# Altium footprint library Connector_Molex.PcbLib: 815 footprints (part 26 of 51)
Each footprint in its own frame and in the unit in brackets; x right, y up, seen from the top. Pads: shape width x height; smd on the part's side, far side on the other; paste and mask are expansions set on the pad; w line width, h text height; cw(c..) or ccw(c..) is an arc to the next point about the centre after c.
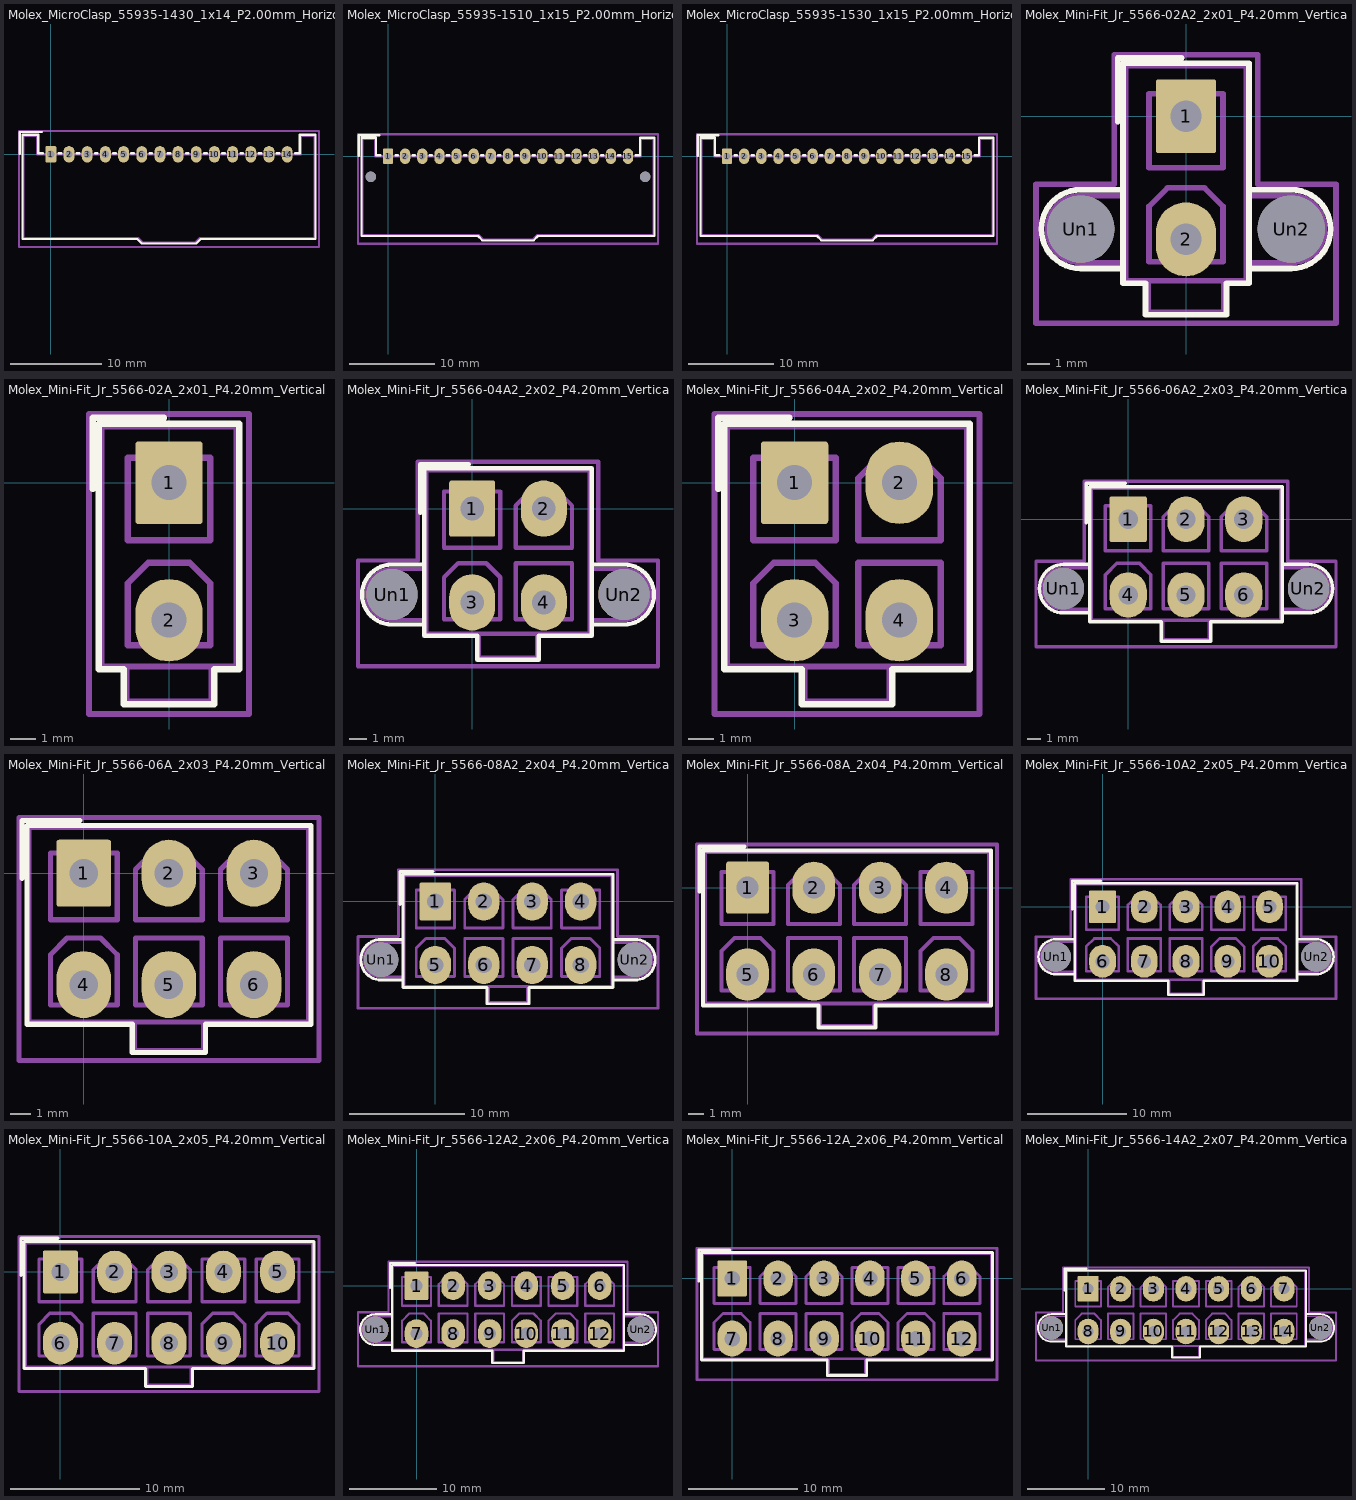
[diagram p25: the footprints below, top view; thin cyan lines are the x and y axes]

## Molex_MicroClasp_55935-1430_1x14_P2.00mm_Horizontal [mm]
pads (14):
  rrect21% 1.2x1.8 hole 0.8: 1(0,0)
  rrect100% 1.2x1.8 hole 0.8: 2(2,0) 3(4,0) 4(6,0) 5(8,0) 6(10,0) 7(12,0) 8(14,0) 9(16,0) 10(18,0) 11(20,0) 12(22,0) 13(24,0) 14(26,0)
F.SilkS:
  lines w0.254: -3.41,0.05 -3.41,2.46 -1,2.46 ; -0.86,0.11 -1.39,0.11 -1.39,2.16 -3.11,2.16 -3.11,-9.31 9.5,-9.31 10,-9.81 13,-9.81 16,-9.81 16.5,-9.31 29.11,-9.31 29.11,2.16 27.39,2.16 27.39,0.11 26.86,0.11 ; 0.86,0.11 1.14,0.11 ; 2.86,0.11 3.14,0.11 ; 4.86,0.11 5.14,0.11 ; 6.86,0.11 7.14,0.11 ; 8.86,0.11 9.14,0.11 ; 10.86,0.11 11.14,0.11 ; 12.86,0.11 13.14,0.11 ; 14.86,0.11 15.14,0.11 ; 16.86,0.11 17.14,0.11 ; 18.86,0.11 19.14,0.11 ; 20.86,0.11 21.14,0.11 ; 22.86,0.11 23.14,0.11 ; 24.86,0.11 25.14,0.11
Top Assembly:
  lines w0.254: -0.5,0 0,-0.707 0.5,0 ; -3,-9.2 9.61,-9.2 10.11,-9.7 13,-9.7 15.89,-9.7 16.39,-9.2 29,-9.2 29,2.05 27.5,2.05 27.5,0 13,0 -1.5,0 -1.5,2.05 -3,2.05 -3,-9.2
  text "'.Designator'" at 8.953,-9.34 h1
Top Courtyard:
  lines w0.254: -3.5,-10.2 29.5,-10.2 29.5,2.56 -3.5,2.56 -3.5,-10.2
Top Designator:
  text ".Designator" at 5.382,-4.328 h1.52

## Molex_MicroClasp_55935-1510_1x15_P2.00mm_Horizontal [mm]
pads (17):
  rrect21% 1.2x1.8 hole 0.8: 1(0,0)
  rrect100% 1.2x1.8 hole 0.8: 2(2,0) 3(4,0) 4(6,0) 5(8,0) 6(10,0) 7(12,0) 8(14,0) 9(16,0) 10(18,0) 11(20,0) 12(22,0) 13(24,0) 14(26,0) 15(28,0)
  round 1.2 hole 1.2: Un1(-2,-2.4) Un2(30,-2.4)
F.SilkS:
  lines w0.254: -3.41,0.05 -3.41,2.46 -1,2.46 ; -0.86,0.11 -1.39,0.11 -1.39,2.16 -3.11,2.16 -3.11,-9.31 10.5,-9.31 11,-9.81 14,-9.81 17,-9.81 17.5,-9.31 31.11,-9.31 31.11,2.16 29.39,2.16 29.39,0.11 28.86,0.11 ; 0.86,0.11 1.14,0.11 ; 2.86,0.11 3.14,0.11 ; 4.86,0.11 5.14,0.11 ; 6.86,0.11 7.14,0.11 ; 8.86,0.11 9.14,0.11 ; 10.86,0.11 11.14,0.11 ; 12.86,0.11 13.14,0.11 ; 14.86,0.11 15.14,0.11 ; 16.86,0.11 17.14,0.11 ; 18.86,0.11 19.14,0.11 ; 20.86,0.11 21.14,0.11 ; 22.86,0.11 23.14,0.11 ; 24.86,0.11 25.14,0.11 ; 26.86,0.11 27.14,0.11
Top Assembly:
  lines w0.254: -0.5,0 0,-0.707 0.5,0 ; -3,-9.2 10.61,-9.2 11.11,-9.7 14,-9.7 16.89,-9.7 17.39,-9.2 31,-9.2 31,2.05 29.5,2.05 29.5,0 14,0 -1.5,0 -1.5,2.05 -3,2.05 -3,-9.2
  text "'.Designator'" at 9.953,-9.34 h1
Top Courtyard:
  lines w0.254: -3.5,-10.2 31.5,-10.2 31.5,2.56 -3.5,2.56 -3.5,-10.2
Top Designator:
  text ".Designator" at 6.382,-4.328 h1.52

## Molex_MicroClasp_55935-1530_1x15_P2.00mm_Horizontal [mm]
pads (15):
  rrect21% 1.2x1.8 hole 0.8: 1(0,0)
  rrect100% 1.2x1.8 hole 0.8: 2(2,0) 3(4,0) 4(6,0) 5(8,0) 6(10,0) 7(12,0) 8(14,0) 9(16,0) 10(18,0) 11(20,0) 12(22,0) 13(24,0) 14(26,0) 15(28,0)
F.SilkS:
  lines w0.254: -3.41,0.05 -3.41,2.46 -1,2.46 ; -0.86,0.11 -1.39,0.11 -1.39,2.16 -3.11,2.16 -3.11,-9.31 10.5,-9.31 11,-9.81 14,-9.81 17,-9.81 17.5,-9.31 31.11,-9.31 31.11,2.16 29.39,2.16 29.39,0.11 28.86,0.11 ; 0.86,0.11 1.14,0.11 ; 2.86,0.11 3.14,0.11 ; 4.86,0.11 5.14,0.11 ; 6.86,0.11 7.14,0.11 ; 8.86,0.11 9.14,0.11 ; 10.86,0.11 11.14,0.11 ; 12.86,0.11 13.14,0.11 ; 14.86,0.11 15.14,0.11 ; 16.86,0.11 17.14,0.11 ; 18.86,0.11 19.14,0.11 ; 20.86,0.11 21.14,0.11 ; 22.86,0.11 23.14,0.11 ; 24.86,0.11 25.14,0.11 ; 26.86,0.11 27.14,0.11
Top Assembly:
  lines w0.254: -0.5,0 0,-0.707 0.5,0 ; -3,-9.2 10.61,-9.2 11.11,-9.7 14,-9.7 16.89,-9.7 17.39,-9.2 31,-9.2 31,2.05 29.5,2.05 29.5,0 14,0 -1.5,0 -1.5,2.05 -3,2.05 -3,-9.2
  text "'.Designator'" at 9.953,-9.34 h1
Top Courtyard:
  lines w0.254: -3.5,-10.2 31.5,-10.2 31.5,2.56 -3.5,2.56 -3.5,-10.2
Top Designator:
  text ".Designator" at 6.382,-4.328 h1.52

## Molex_Mini-Fit_Jr_5566-02A2_2x01_P4.20mm_Vertical [mm]
pads (4):
  rrect9% 2.7x3.3 hole 1.4: 1(0,0)
  rrect100% 2.7x3.3 hole 1.4: 2(0,-5.5)
  round 3 hole 3: Un1(-4.7,-5.04) Un2(4.7,-5.04)
F.SilkS:
  lines w0.254: -3.05,-0.25 -3.05,2.6 -0.2,2.6 ; -2.81,-6.8 -4.7,-6.8 cw(c-4.7,-5.04) -4.7,-3.28 -2.81,-3.28 ; 2.81,-6.8 4.7,-6.8 ccw(c4.7,-5.04) 4.7,-3.28 2.81,-3.28 ; -2.81,-7.46 -1.81,-7.46 -1.81,-8.86 0,-8.86 1.81,-8.86 1.81,-7.46 2.81,-7.46 2.81,2.36 0,2.36 -2.81,2.36 -2.81,-7.46
Top Assembly:
  lines w0.254: -3.05,-0.25 -3.05,2.6 -0.2,2.6 ; -2.7,-6.54 -4.7,-6.54 cw(c-4.7,-5.04) -4.7,-3.54 -2.7,-3.54 ; -1.7,-7.35 -1.7,-8.75 1.7,-8.75 1.7,-7.35 ; 2.7,-6.54 4.7,-6.54 ccw(c4.7,-5.04) 4.7,-3.54 2.7,-3.54 ; -2.7,-7.35 2.7,-7.35 2.7,2.25 -2.7,2.25 -2.7,-7.35 ; -1.65,-6.5 1.65,-6.5 1.65,-4.025 0.825,-3.2 -0.825,-3.2 -1.65,-4.025 -1.65,-6.5 ; -1.65,-2.3 1.65,-2.3 1.65,1 -1.65,1 -1.65,-2.3
  text "'.Designator'" at -4.047,0.71 h1
Top Courtyard:
  lines w0.254: -6.7,-9.25 6.7,-9.25 6.7,-3.04 3.2,-3.04 3.2,2.75 -3.2,2.75 -3.2,-3.04 -6.7,-3.04 -6.7,-9.25
Top Designator:
  text ".Designator" at -7.618,-3.758 h1.52

## Molex_Mini-Fit_Jr_5566-02A_2x01_P4.20mm_Vertical [mm]
pads (2):
  rrect9% 2.7x3.3 hole 1.4: 1(0,0)
  rrect100% 2.7x3.3 hole 1.4: 2(0,-5.5)
F.SilkS:
  lines w0.254: -3.05,-0.25 -3.05,2.6 -0.2,2.6 ; -2.81,-7.46 -1.81,-7.46 -1.81,-8.86 0,-8.86 1.81,-8.86 1.81,-7.46 2.81,-7.46 2.81,2.36 0,2.36 -2.81,2.36 -2.81,-7.46
Top Assembly:
  lines w0.254: -3.05,-0.25 -3.05,2.6 -0.2,2.6 ; -1.7,-7.35 -1.7,-8.75 1.7,-8.75 1.7,-7.35 ; -2.7,-7.35 2.7,-7.35 2.7,2.25 -2.7,2.25 -2.7,-7.35 ; -1.65,-6.5 1.65,-6.5 1.65,-4.025 0.825,-3.2 -0.825,-3.2 -1.65,-4.025 -1.65,-6.5 ; -1.65,-2.3 1.65,-2.3 1.65,1 -1.65,1 -1.65,-2.3
  text "'.Designator'" at -4.047,0.71 h1
Top Courtyard:
  lines w0.254: -3.2,-9.25 3.2,-9.25 3.2,2.75 -3.2,2.75 -3.2,-9.25
Top Designator:
  text ".Designator" at -7.768,-3.758 h1.52

## Molex_Mini-Fit_Jr_5566-04A2_2x02_P4.20mm_Vertical [mm]
pads (6):
  rrect9% 2.7x3.3 hole 1.4: 1(0,0)
  rrect100% 2.7x3.3 hole 1.4: 2(4.2,0) 3(0,-5.5) 4(4.2,-5.5)
  round 3 hole 3: Un1(-4.7,-5.04) Un2(8.9,-5.04)
F.SilkS:
  lines w0.254: -3.05,-0.25 -3.05,2.6 -0.2,2.6 ; -2.81,-6.8 -4.7,-6.8 cw(c-4.7,-5.04) -4.7,-3.28 -2.81,-3.28 ; 7.01,-6.8 8.9,-6.8 ccw(c8.9,-5.04) 8.9,-3.28 7.01,-3.28 ; -2.81,-7.46 0.29,-7.46 0.29,-8.86 2.1,-8.86 3.91,-8.86 3.91,-7.46 7.01,-7.46 7.01,2.36 2.1,2.36 -2.81,2.36 -2.81,-7.46
Top Assembly:
  lines w0.254: -3.05,-0.25 -3.05,2.6 -0.2,2.6 ; -2.7,-6.54 -4.7,-6.54 cw(c-4.7,-5.04) -4.7,-3.54 -2.7,-3.54 ; 0.4,-7.35 0.4,-8.75 3.8,-8.75 3.8,-7.35 ; 6.9,-6.54 8.9,-6.54 ccw(c8.9,-5.04) 8.9,-3.54 6.9,-3.54 ; -2.7,-7.35 6.9,-7.35 6.9,2.25 -2.7,2.25 -2.7,-7.35 ; -1.65,-6.5 1.65,-6.5 1.65,-4.025 0.825,-3.2 -0.825,-3.2 -1.65,-4.025 -1.65,-6.5 ; -1.65,-2.3 1.65,-2.3 1.65,1 -1.65,1 -1.65,-2.3 ; 2.55,-6.5 5.85,-6.5 5.85,-3.2 2.55,-3.2 2.55,-6.5 ; 2.55,-2.3 5.85,-2.3 5.85,0.175 5.025,1 3.375,1 2.55,0.175 2.55,-2.3
  text "'.Designator'" at -1.947,0.71 h1
Top Courtyard:
  lines w0.254: -6.7,-9.25 10.9,-9.25 10.9,-3.04 7.4,-3.04 7.4,2.75 -3.2,2.75 -3.2,-3.04 -6.7,-3.04 -6.7,-9.25
Top Designator:
  text ".Designator" at -5.518,-3.758 h1.52

## Molex_Mini-Fit_Jr_5566-04A_2x02_P4.20mm_Vertical [mm]
pads (4):
  rrect9% 2.7x3.3 hole 1.4: 1(0,0)
  rrect100% 2.7x3.3 hole 1.4: 2(4.2,0) 3(0,-5.5) 4(4.2,-5.5)
F.SilkS:
  lines w0.254: -3.05,-0.25 -3.05,2.6 -0.2,2.6 ; -2.81,-7.46 0.29,-7.46 0.29,-8.86 2.1,-8.86 3.91,-8.86 3.91,-7.46 7.01,-7.46 7.01,2.36 2.1,2.36 -2.81,2.36 -2.81,-7.46
Top Assembly:
  lines w0.254: -3.05,-0.25 -3.05,2.6 -0.2,2.6 ; 0.4,-7.35 0.4,-8.75 3.8,-8.75 3.8,-7.35 ; -2.7,-7.35 6.9,-7.35 6.9,2.25 -2.7,2.25 -2.7,-7.35 ; -1.65,-6.5 1.65,-6.5 1.65,-4.025 0.825,-3.2 -0.825,-3.2 -1.65,-4.025 -1.65,-6.5 ; -1.65,-2.3 1.65,-2.3 1.65,1 -1.65,1 -1.65,-2.3 ; 2.55,-6.5 5.85,-6.5 5.85,-3.2 2.55,-3.2 2.55,-6.5 ; 2.55,-2.3 5.85,-2.3 5.85,0.175 5.025,1 3.375,1 2.55,0.175 2.55,-2.3
  text "'.Designator'" at -1.947,0.71 h1
Top Courtyard:
  lines w0.254: -3.2,-9.25 7.4,-9.25 7.4,2.75 -3.2,2.75 -3.2,-9.25
Top Designator:
  text ".Designator" at -5.518,-3.758 h1.52

## Molex_Mini-Fit_Jr_5566-06A2_2x03_P4.20mm_Vertical [mm]
pads (8):
  rrect9% 2.7x3.3 hole 1.4: 1(0,0)
  rrect100% 2.7x3.3 hole 1.4: 2(4.2,0) 3(8.4,0) 4(0,-5.5) 5(4.2,-5.5) 6(8.4,-5.5)
  round 3 hole 3: Un1(-4.7,-5.04) Un2(13.1,-5.04)
F.SilkS:
  lines w0.254: -3.05,-0.25 -3.05,2.6 -0.2,2.6 ; -2.81,-6.8 -4.7,-6.8 cw(c-4.7,-5.04) -4.7,-3.28 -2.81,-3.28 ; 11.21,-6.8 13.1,-6.8 ccw(c13.1,-5.04) 13.1,-3.28 11.21,-3.28 ; -2.81,-7.46 2.39,-7.46 2.39,-8.86 4.2,-8.86 6.01,-8.86 6.01,-7.46 11.21,-7.46 11.21,2.36 4.2,2.36 -2.81,2.36 -2.81,-7.46
Top Assembly:
  lines w0.254: -3.05,-0.25 -3.05,2.6 -0.2,2.6 ; -2.7,-6.54 -4.7,-6.54 cw(c-4.7,-5.04) -4.7,-3.54 -2.7,-3.54 ; 2.5,-7.35 2.5,-8.75 5.9,-8.75 5.9,-7.35 ; 11.1,-6.54 13.1,-6.54 ccw(c13.1,-5.04) 13.1,-3.54 11.1,-3.54 ; -2.7,-7.35 11.1,-7.35 11.1,2.25 -2.7,2.25 -2.7,-7.35 ; -1.65,-6.5 1.65,-6.5 1.65,-4.025 0.825,-3.2 -0.825,-3.2 -1.65,-4.025 -1.65,-6.5 ; -1.65,-2.3 1.65,-2.3 1.65,1 -1.65,1 -1.65,-2.3 ; 2.55,-6.5 5.85,-6.5 5.85,-3.2 2.55,-3.2 2.55,-6.5 ; 2.55,-2.3 5.85,-2.3 5.85,0.175 5.025,1 3.375,1 2.55,0.175 2.55,-2.3 ; 6.75,-6.5 10.05,-6.5 10.05,-3.2 6.75,-3.2 6.75,-6.5 ; 6.75,-2.3 10.05,-2.3 10.05,0.175 9.225,1 7.575,1 6.75,0.175 6.75,-2.3
  text "'.Designator'" at 0.153,0.71 h1
Top Courtyard:
  lines w0.254: -6.7,-9.25 15.1,-9.25 15.1,-3.04 11.61,-3.04 11.61,2.75 -3.2,2.75 -3.2,-3.04 -6.7,-3.04 -6.7,-9.25
Top Designator:
  text ".Designator" at -3.418,-3.758 h1.52

## Molex_Mini-Fit_Jr_5566-06A_2x03_P4.20mm_Vertical [mm]
pads (6):
  rrect9% 2.7x3.3 hole 1.4: 1(0,0)
  rrect100% 2.7x3.3 hole 1.4: 2(4.2,0) 3(8.4,0) 4(0,-5.5) 5(4.2,-5.5) 6(8.4,-5.5)
F.SilkS:
  lines w0.254: -3.05,-0.25 -3.05,2.6 -0.2,2.6 ; -2.81,-7.46 2.39,-7.46 2.39,-8.86 4.2,-8.86 6.01,-8.86 6.01,-7.46 11.21,-7.46 11.21,2.36 4.2,2.36 -2.81,2.36 -2.81,-7.46
Top Assembly:
  lines w0.254: -3.05,-0.25 -3.05,2.6 -0.2,2.6 ; 2.5,-7.35 2.5,-8.75 5.9,-8.75 5.9,-7.35 ; -2.7,-7.35 11.1,-7.35 11.1,2.25 -2.7,2.25 -2.7,-7.35 ; -1.65,-6.5 1.65,-6.5 1.65,-4.025 0.825,-3.2 -0.825,-3.2 -1.65,-4.025 -1.65,-6.5 ; -1.65,-2.3 1.65,-2.3 1.65,1 -1.65,1 -1.65,-2.3 ; 2.55,-6.5 5.85,-6.5 5.85,-3.2 2.55,-3.2 2.55,-6.5 ; 2.55,-2.3 5.85,-2.3 5.85,0.175 5.025,1 3.375,1 2.55,0.175 2.55,-2.3 ; 6.75,-6.5 10.05,-6.5 10.05,-3.2 6.75,-3.2 6.75,-6.5 ; 6.75,-2.3 10.05,-2.3 10.05,0.175 9.225,1 7.575,1 6.75,0.175 6.75,-2.3
  text "'.Designator'" at 0.153,0.71 h1
Top Courtyard:
  lines w0.254: -3.2,-9.25 11.61,-9.25 11.61,2.75 -3.2,2.75 -3.2,-9.25
Top Designator:
  text ".Designator" at -3.413,-3.758 h1.52

## Molex_Mini-Fit_Jr_5566-08A2_2x04_P4.20mm_Vertical [mm]
pads (10):
  rrect9% 2.7x3.3 hole 1.4: 1(0,0)
  rrect100% 2.7x3.3 hole 1.4: 2(4.2,0) 3(8.4,0) 4(12.6,0) 5(0,-5.5) 6(4.2,-5.5) 7(8.4,-5.5) 8(12.6,-5.5)
  round 3 hole 3: Un1(-4.7,-5.04) Un2(17.3,-5.04)
F.SilkS:
  lines w0.254: -3.05,-0.25 -3.05,2.6 -0.2,2.6 ; -2.81,-6.8 -4.7,-6.8 cw(c-4.7,-5.04) -4.7,-3.28 -2.81,-3.28 ; 15.41,-6.8 17.3,-6.8 ccw(c17.3,-5.04) 17.3,-3.28 15.41,-3.28 ; -2.81,-7.46 4.49,-7.46 4.49,-8.86 6.3,-8.86 8.11,-8.86 8.11,-7.46 15.41,-7.46 15.41,2.36 6.3,2.36 -2.81,2.36 -2.81,-7.46
Top Assembly:
  lines w0.254: -3.05,-0.25 -3.05,2.6 -0.2,2.6 ; -2.7,-6.54 -4.7,-6.54 cw(c-4.7,-5.04) -4.7,-3.54 -2.7,-3.54 ; 4.6,-7.35 4.6,-8.75 8,-8.75 8,-7.35 ; 15.3,-6.54 17.3,-6.54 ccw(c17.3,-5.04) 17.3,-3.54 15.3,-3.54 ; -2.7,-7.35 15.3,-7.35 15.3,2.25 -2.7,2.25 -2.7,-7.35 ; -1.65,-6.5 1.65,-6.5 1.65,-4.025 0.825,-3.2 -0.825,-3.2 -1.65,-4.025 -1.65,-6.5 ; -1.65,-2.3 1.65,-2.3 1.65,1 -1.65,1 -1.65,-2.3 ; 2.55,-6.5 5.85,-6.5 5.85,-3.2 2.55,-3.2 2.55,-6.5 ; 2.55,-2.3 5.85,-2.3 5.85,0.175 5.025,1 3.375,1 2.55,0.175 2.55,-2.3 ; 6.75,-6.5 10.05,-6.5 10.05,-3.2 6.75,-3.2 6.75,-6.5 ; 6.75,-2.3 10.05,-2.3 10.05,0.175 9.225,1 7.575,1 6.75,0.175 6.75,-2.3 ; 10.95,-6.5 14.25,-6.5 14.25,-4.025 13.425,-3.2 11.775,-3.2 10.95,-4.025 10.95,-6.5 ; 10.95,-2.3 14.25,-2.3 14.25,1 10.95,1 10.95,-2.3
  text "'.Designator'" at 2.253,0.71 h1
Top Courtyard:
  lines w0.254: -6.7,-9.25 19.3,-9.25 19.3,-3.04 15.8,-3.04 15.8,2.75 -3.2,2.75 -3.2,-3.04 -6.7,-3.04 -6.7,-9.25
Top Designator:
  text ".Designator" at -1.318,-3.758 h1.52

## Molex_Mini-Fit_Jr_5566-08A_2x04_P4.20mm_Vertical [mm]
pads (8):
  rrect9% 2.7x3.3 hole 1.4: 1(0,0)
  rrect100% 2.7x3.3 hole 1.4: 2(4.2,0) 3(8.4,0) 4(12.6,0) 5(0,-5.5) 6(4.2,-5.5) 7(8.4,-5.5) 8(12.6,-5.5)
F.SilkS:
  lines w0.254: -3.05,-0.25 -3.05,2.6 -0.2,2.6 ; -2.81,-7.46 4.49,-7.46 4.49,-8.86 6.3,-8.86 8.11,-8.86 8.11,-7.46 15.41,-7.46 15.41,2.36 6.3,2.36 -2.81,2.36 -2.81,-7.46
Top Assembly:
  lines w0.254: -3.05,-0.25 -3.05,2.6 -0.2,2.6 ; 4.6,-7.35 4.6,-8.75 8,-8.75 8,-7.35 ; -2.7,-7.35 15.3,-7.35 15.3,2.25 -2.7,2.25 -2.7,-7.35 ; -1.65,-6.5 1.65,-6.5 1.65,-4.025 0.825,-3.2 -0.825,-3.2 -1.65,-4.025 -1.65,-6.5 ; -1.65,-2.3 1.65,-2.3 1.65,1 -1.65,1 -1.65,-2.3 ; 2.55,-6.5 5.85,-6.5 5.85,-3.2 2.55,-3.2 2.55,-6.5 ; 2.55,-2.3 5.85,-2.3 5.85,0.175 5.025,1 3.375,1 2.55,0.175 2.55,-2.3 ; 6.75,-6.5 10.05,-6.5 10.05,-3.2 6.75,-3.2 6.75,-6.5 ; 6.75,-2.3 10.05,-2.3 10.05,0.175 9.225,1 7.575,1 6.75,0.175 6.75,-2.3 ; 10.95,-6.5 14.25,-6.5 14.25,-4.025 13.425,-3.2 11.775,-3.2 10.95,-4.025 10.95,-6.5 ; 10.95,-2.3 14.25,-2.3 14.25,1 10.95,1 10.95,-2.3
  text "'.Designator'" at 2.253,0.71 h1
Top Courtyard:
  lines w0.254: -3.2,-9.25 15.8,-9.25 15.8,2.75 -3.2,2.75 -3.2,-9.25
Top Designator:
  text ".Designator" at -1.318,-3.758 h1.52

## Molex_Mini-Fit_Jr_5566-10A2_2x05_P4.20mm_Vertical [mm]
pads (12):
  rrect9% 2.7x3.3 hole 1.4: 1(0,0)
  rrect100% 2.7x3.3 hole 1.4: 2(4.2,0) 3(8.4,0) 4(12.6,0) 5(16.8,0) 6(0,-5.5) 7(4.2,-5.5) 8(8.4,-5.5) 9(12.6,-5.5) 10(16.8,-5.5)
  round 3 hole 3: Un1(-4.7,-5.04) Un2(21.5,-5.04)
F.SilkS:
  lines w0.254: -3.05,-0.25 -3.05,2.6 -0.2,2.6 ; -2.81,-6.8 -4.7,-6.8 cw(c-4.7,-5.04) -4.7,-3.28 -2.81,-3.28 ; 19.61,-6.8 21.5,-6.8 ccw(c21.5,-5.04) 21.5,-3.28 19.61,-3.28 ; -2.81,-7.46 6.59,-7.46 6.59,-8.86 8.4,-8.86 10.21,-8.86 10.21,-7.46 19.61,-7.46 19.61,2.36 8.4,2.36 -2.81,2.36 -2.81,-7.46
Top Assembly:
  lines w0.254: -3.05,-0.25 -3.05,2.6 -0.2,2.6 ; -2.7,-6.54 -4.7,-6.54 cw(c-4.7,-5.04) -4.7,-3.54 -2.7,-3.54 ; 6.7,-7.35 6.7,-8.75 10.1,-8.75 10.1,-7.35 ; 19.5,-6.54 21.5,-6.54 ccw(c21.5,-5.04) 21.5,-3.54 19.5,-3.54 ; -2.7,-7.35 19.5,-7.35 19.5,2.25 -2.7,2.25 -2.7,-7.35 ; -1.65,-6.5 1.65,-6.5 1.65,-4.025 0.825,-3.2 -0.825,-3.2 -1.65,-4.025 -1.65,-6.5 ; -1.65,-2.3 1.65,-2.3 1.65,1 -1.65,1 -1.65,-2.3 ; 2.55,-6.5 5.85,-6.5 5.85,-3.2 2.55,-3.2 2.55,-6.5 ; 2.55,-2.3 5.85,-2.3 5.85,0.175 5.025,1 3.375,1 2.55,0.175 2.55,-2.3 ; 6.75,-6.5 10.05,-6.5 10.05,-3.2 6.75,-3.2 6.75,-6.5 ; 6.75,-2.3 10.05,-2.3 10.05,0.175 9.225,1 7.575,1 6.75,0.175 6.75,-2.3 ; 10.95,-6.5 14.25,-6.5 14.25,-4.025 13.425,-3.2 11.775,-3.2 10.95,-4.025 10.95,-6.5 ; 10.95,-2.3 14.25,-2.3 14.25,1 10.95,1 10.95,-2.3 ; 15.15,-6.5 18.45,-6.5 18.45,-4.025 17.625,-3.2 15.975,-3.2 15.15,-4.025 15.15,-6.5 ; 15.15,-2.3 18.45,-2.3 18.45,1 15.15,1 15.15,-2.3
  text "'.Designator'" at 4.353,0.71 h1
Top Courtyard:
  lines w0.254: -6.7,-9.25 23.5,-9.25 23.5,-3.04 20,-3.04 20,2.75 -3.2,2.75 -3.2,-3.04 -6.7,-3.04 -6.7,-9.25
Top Designator:
  text ".Designator" at 0.782,-3.758 h1.52

## Molex_Mini-Fit_Jr_5566-10A_2x05_P4.20mm_Vertical [mm]
pads (10):
  rrect9% 2.7x3.3 hole 1.4: 1(0,0)
  rrect100% 2.7x3.3 hole 1.4: 2(4.2,0) 3(8.4,0) 4(12.6,0) 5(16.8,0) 6(0,-5.5) 7(4.2,-5.5) 8(8.4,-5.5) 9(12.6,-5.5) 10(16.8,-5.5)
F.SilkS:
  lines w0.254: -3.05,-0.25 -3.05,2.6 -0.2,2.6 ; -2.81,-7.46 6.59,-7.46 6.59,-8.86 8.4,-8.86 10.21,-8.86 10.21,-7.46 19.61,-7.46 19.61,2.36 8.4,2.36 -2.81,2.36 -2.81,-7.46
Top Assembly:
  lines w0.254: -3.05,-0.25 -3.05,2.6 -0.2,2.6 ; 6.7,-7.35 6.7,-8.75 10.1,-8.75 10.1,-7.35 ; -2.7,-7.35 19.5,-7.35 19.5,2.25 -2.7,2.25 -2.7,-7.35 ; -1.65,-6.5 1.65,-6.5 1.65,-4.025 0.825,-3.2 -0.825,-3.2 -1.65,-4.025 -1.65,-6.5 ; -1.65,-2.3 1.65,-2.3 1.65,1 -1.65,1 -1.65,-2.3 ; 2.55,-6.5 5.85,-6.5 5.85,-3.2 2.55,-3.2 2.55,-6.5 ; 2.55,-2.3 5.85,-2.3 5.85,0.175 5.025,1 3.375,1 2.55,0.175 2.55,-2.3 ; 6.75,-6.5 10.05,-6.5 10.05,-3.2 6.75,-3.2 6.75,-6.5 ; 6.75,-2.3 10.05,-2.3 10.05,0.175 9.225,1 7.575,1 6.75,0.175 6.75,-2.3 ; 10.95,-6.5 14.25,-6.5 14.25,-4.025 13.425,-3.2 11.775,-3.2 10.95,-4.025 10.95,-6.5 ; 10.95,-2.3 14.25,-2.3 14.25,1 10.95,1 10.95,-2.3 ; 15.15,-6.5 18.45,-6.5 18.45,-4.025 17.625,-3.2 15.975,-3.2 15.15,-4.025 15.15,-6.5 ; 15.15,-2.3 18.45,-2.3 18.45,1 15.15,1 15.15,-2.3
  text "'.Designator'" at 4.353,0.71 h1
Top Courtyard:
  lines w0.254: -3.2,-9.25 20,-9.25 20,2.75 -3.2,2.75 -3.2,-9.25
Top Designator:
  text ".Designator" at 0.782,-3.758 h1.52

## Molex_Mini-Fit_Jr_5566-12A2_2x06_P4.20mm_Vertical [mm]
pads (14):
  rrect9% 2.7x3.3 hole 1.4: 1(0,0)
  rrect100% 2.7x3.3 hole 1.4: 2(4.2,0) 3(8.4,0) 4(12.6,0) 5(16.8,0) 6(21,0) 7(0,-5.5) 8(4.2,-5.5) 9(8.4,-5.5) 10(12.6,-5.5) 11(16.8,-5.5) 12(21,-5.5)
  round 3 hole 3: Un1(-4.7,-5.04) Un2(25.7,-5.04)
F.SilkS:
  lines w0.254: -3.05,-0.25 -3.05,2.6 -0.2,2.6 ; -2.81,-6.8 -4.7,-6.8 cw(c-4.7,-5.04) -4.7,-3.28 -2.81,-3.28 ; 23.81,-6.8 25.7,-6.8 ccw(c25.7,-5.04) 25.7,-3.28 23.81,-3.28 ; -2.81,-7.46 8.69,-7.46 8.69,-8.86 10.5,-8.86 12.31,-8.86 12.31,-7.46 23.81,-7.46 23.81,2.36 10.5,2.36 -2.81,2.36 -2.81,-7.46
Top Assembly:
  lines w0.254: -3.05,-0.25 -3.05,2.6 -0.2,2.6 ; -2.7,-6.54 -4.7,-6.54 cw(c-4.7,-5.04) -4.7,-3.54 -2.7,-3.54 ; 8.8,-7.35 8.8,-8.75 12.2,-8.75 12.2,-7.35 ; 23.7,-6.54 25.7,-6.54 ccw(c25.7,-5.04) 25.7,-3.54 23.7,-3.54 ; -2.7,-7.35 23.7,-7.35 23.7,2.25 -2.7,2.25 -2.7,-7.35 ; -1.65,-6.5 1.65,-6.5 1.65,-4.025 0.825,-3.2 -0.825,-3.2 -1.65,-4.025 -1.65,-6.5 ; -1.65,-2.3 1.65,-2.3 1.65,1 -1.65,1 -1.65,-2.3 ; 2.55,-6.5 5.85,-6.5 5.85,-3.2 2.55,-3.2 2.55,-6.5 ; 2.55,-2.3 5.85,-2.3 5.85,0.175 5.025,1 3.375,1 2.55,0.175 2.55,-2.3 ; 6.75,-6.5 10.05,-6.5 10.05,-3.2 6.75,-3.2 6.75,-6.5 ; 6.75,-2.3 10.05,-2.3 10.05,0.175 9.225,1 7.575,1 6.75,0.175 6.75,-2.3 ; 10.95,-6.5 14.25,-6.5 14.25,-4.025 13.425,-3.2 11.775,-3.2 10.95,-4.025 10.95,-6.5 ; 10.95,-2.3 14.25,-2.3 14.25,1 10.95,1 10.95,-2.3 ; 15.15,-6.5 18.45,-6.5 18.45,-4.025 17.625,-3.2 15.975,-3.2 15.15,-4.025 15.15,-6.5 ; 15.15,-2.3 18.45,-2.3 18.45,1 15.15,1 15.15,-2.3 ; 19.35,-6.5 22.65,-6.5 22.65,-3.2 19.35,-3.2 19.35,-6.5 ; 19.35,-2.3 22.65,-2.3 22.65,0.175 21.825,1 20.175,1 19.35,0.175 19.35,-2.3
  text "'.Designator'" at 6.453,0.71 h1
Top Courtyard:
  lines w0.254: -6.71,-9.25 27.7,-9.25 27.7,-3.04 24.21,-3.04 24.21,2.75 -3.21,2.75 -3.21,-3.04 -6.71,-3.04 -6.71,-9.25
Top Designator:
  text ".Designator" at 2.877,-3.758 h1.52

## Molex_Mini-Fit_Jr_5566-12A_2x06_P4.20mm_Vertical [mm]
pads (12):
  rrect9% 2.7x3.3 hole 1.4: 1(0,0)
  rrect100% 2.7x3.3 hole 1.4: 2(4.2,0) 3(8.4,0) 4(12.6,0) 5(16.8,0) 6(21,0) 7(0,-5.5) 8(4.2,-5.5) 9(8.4,-5.5) 10(12.6,-5.5) 11(16.8,-5.5) 12(21,-5.5)
F.SilkS:
  lines w0.254: -3.05,-0.25 -3.05,2.6 -0.2,2.6 ; -2.81,-7.46 8.69,-7.46 8.69,-8.86 10.5,-8.86 12.31,-8.86 12.31,-7.46 23.81,-7.46 23.81,2.36 10.5,2.36 -2.81,2.36 -2.81,-7.46
Top Assembly:
  lines w0.254: -3.05,-0.25 -3.05,2.6 -0.2,2.6 ; 8.8,-7.35 8.8,-8.75 12.2,-8.75 12.2,-7.35 ; -2.7,-7.35 23.7,-7.35 23.7,2.25 -2.7,2.25 -2.7,-7.35 ; -1.65,-6.5 1.65,-6.5 1.65,-4.025 0.825,-3.2 -0.825,-3.2 -1.65,-4.025 -1.65,-6.5 ; -1.65,-2.3 1.65,-2.3 1.65,1 -1.65,1 -1.65,-2.3 ; 2.55,-6.5 5.85,-6.5 5.85,-3.2 2.55,-3.2 2.55,-6.5 ; 2.55,-2.3 5.85,-2.3 5.85,0.175 5.025,1 3.375,1 2.55,0.175 2.55,-2.3 ; 6.75,-6.5 10.05,-6.5 10.05,-3.2 6.75,-3.2 6.75,-6.5 ; 6.75,-2.3 10.05,-2.3 10.05,0.175 9.225,1 7.575,1 6.75,0.175 6.75,-2.3 ; 10.95,-6.5 14.25,-6.5 14.25,-4.025 13.425,-3.2 11.775,-3.2 10.95,-4.025 10.95,-6.5 ; 10.95,-2.3 14.25,-2.3 14.25,1 10.95,1 10.95,-2.3 ; 15.15,-6.5 18.45,-6.5 18.45,-4.025 17.625,-3.2 15.975,-3.2 15.15,-4.025 15.15,-6.5 ; 15.15,-2.3 18.45,-2.3 18.45,1 15.15,1 15.15,-2.3 ; 19.35,-6.5 22.65,-6.5 22.65,-3.2 19.35,-3.2 19.35,-6.5 ; 19.35,-2.3 22.65,-2.3 22.65,0.175 21.825,1 20.175,1 19.35,0.175 19.35,-2.3
  text "'.Designator'" at 6.453,0.71 h1
Top Courtyard:
  lines w0.254: -3.21,-9.25 24.21,-9.25 24.21,2.75 -3.21,2.75 -3.21,-9.25
Top Designator:
  text ".Designator" at 2.882,-3.758 h1.52

## Molex_Mini-Fit_Jr_5566-14A2_2x07_P4.20mm_Vertical [mm]
pads (16):
  rrect9% 2.7x3.3 hole 1.4: 1(0,0)
  rrect100% 2.7x3.3 hole 1.4: 2(4.2,0) 3(8.4,0) 4(12.6,0) 5(16.8,0) 6(21,0) 7(25.2,0) 8(0,-5.5) 9(4.2,-5.5) 10(8.4,-5.5) 11(12.6,-5.5) 12(16.8,-5.5) 13(21,-5.5) 14(25.2,-5.5)
  round 3 hole 3: Un1(-4.7,-5.04) Un2(29.9,-5.04)
F.SilkS:
  lines w0.254: -3.05,-0.25 -3.05,2.6 -0.2,2.6 ; -2.81,-6.8 -4.7,-6.8 cw(c-4.7,-5.04) -4.7,-3.28 -2.81,-3.28 ; 28.01,-6.8 29.9,-6.8 ccw(c29.9,-5.04) 29.9,-3.28 28.01,-3.28 ; -2.81,-7.46 10.79,-7.46 10.79,-8.86 12.6,-8.86 14.41,-8.86 14.41,-7.46 28.01,-7.46 28.01,2.36 12.6,2.36 -2.81,2.36 -2.81,-7.46
Top Assembly:
  lines w0.254: -3.05,-0.25 -3.05,2.6 -0.2,2.6 ; -2.7,-6.54 -4.7,-6.54 cw(c-4.7,-5.04) -4.7,-3.54 -2.7,-3.54 ; 10.9,-7.35 10.9,-8.75 14.3,-8.75 14.3,-7.35 ; 27.9,-6.54 29.9,-6.54 ccw(c29.9,-5.04) 29.9,-3.54 27.9,-3.54 ; -2.7,-7.35 27.9,-7.35 27.9,2.25 -2.7,2.25 -2.7,-7.35 ; -1.65,-6.5 1.65,-6.5 1.65,-4.025 0.825,-3.2 -0.825,-3.2 -1.65,-4.025 -1.65,-6.5 ; -1.65,-2.3 1.65,-2.3 1.65,1 -1.65,1 -1.65,-2.3 ; 2.55,-6.5 5.85,-6.5 5.85,-3.2 2.55,-3.2 2.55,-6.5 ; 2.55,-2.3 5.85,-2.3 5.85,0.175 5.025,1 3.375,1 2.55,0.175 2.55,-2.3 ; 6.75,-6.5 10.05,-6.5 10.05,-3.2 6.75,-3.2 6.75,-6.5 ; 6.75,-2.3 10.05,-2.3 10.05,0.175 9.225,1 7.575,1 6.75,0.175 6.75,-2.3 ; 10.95,-6.5 14.25,-6.5 14.25,-4.025 13.425,-3.2 11.775,-3.2 10.95,-4.025 10.95,-6.5 ; 10.95,-2.3 14.25,-2.3 14.25,1 10.95,1 10.95,-2.3 ; 15.15,-6.5 18.45,-6.5 18.45,-4.025 17.625,-3.2 15.975,-3.2 15.15,-4.025 15.15,-6.5 ; 15.15,-2.3 18.45,-2.3 18.45,1 15.15,1 15.15,-2.3 ; 19.35,-6.5 22.65,-6.5 22.65,-3.2 19.35,-3.2 19.35,-6.5 ; 19.35,-2.3 22.65,-2.3 22.65,0.175 21.825,1 20.175,1 19.35,0.175 19.35,-2.3 ; 23.55,-6.5 26.85,-6.5 26.85,-3.2 23.55,-3.2 23.55,-6.5 ; 23.55,-2.3 26.85,-2.3 26.85,0.175 26.025,1 24.375,1 23.55,0.175 23.55,-2.3
  text "'.Designator'" at 8.553,0.71 h1
Top Courtyard:
  lines w0.254: -6.7,-9.25 31.9,-9.25 31.9,-3.04 28.4,-3.04 28.4,2.75 -3.2,2.75 -3.2,-3.04 -6.7,-3.04 -6.7,-9.25
Top Designator:
  text ".Designator" at 4.982,-3.758 h1.52